# Altium footprint library Pcb_Lib.PcbLib: 27 footprints (part 1 of 2)
Each footprint in its own frame and in the unit in brackets; x right, y up, seen from the top. Pads: shape width x height; smd on the part's side, far side on the other; paste and mask are expansions set on the pad; w line width, h text height; cw(c..) or ccw(c..) is an arc to the next point about the centre after c.
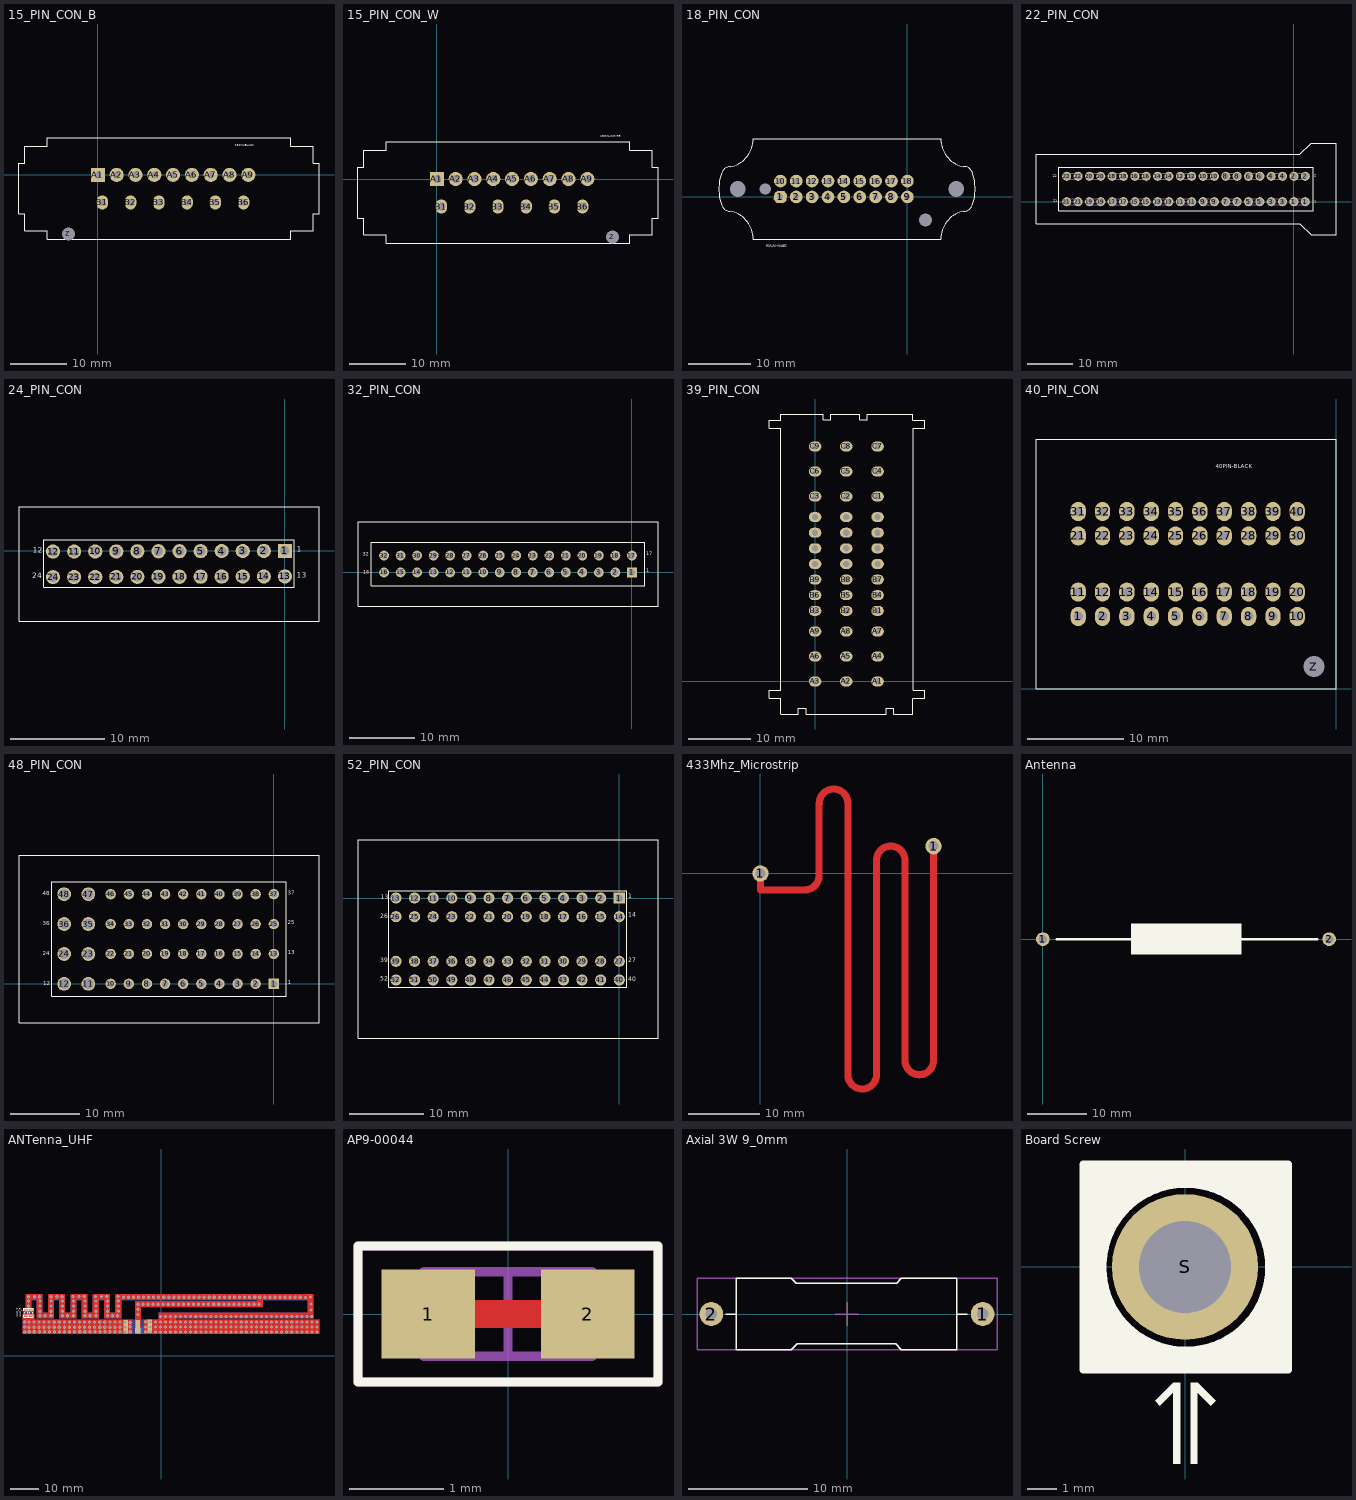
[diagram p0: the footprints below, top view; thin cyan lines are the x and y axes]

## 15_PIN_CON_B [mm] "BALCK"
height 1.2
pads (16):
  rect 2.5x2.5 hole 1.2: A1(0,0)
  round 2.5 hole 1.2: A2(3.33,0) A3(6.66,0) A4(9.99,0) A5(13.32,0) A6(16.65,0) A7(19.98,0) A8(23.31,0) A9(26.64,0)
  oval 2.032x2.5 hole 1.2: B1(0.8,-4.875) B2(5.8,-4.875) B3(10.8,-4.875) B4(15.8,-4.875) B5(20.8,-4.875) B6(25.8,-4.875)
  round 1.5 hole 2.3: Z(-5.193,-10.44)
Top Overlay:
  lines w0.1: -13.95,-6.912 -12.95,-6.912 -12.95,-9.912 -8.95,-9.912 -8.95,-11.412 34.15,-11.412 34.15,-9.912 38.15,-9.912 38.15,-6.912 39.15,-6.912 39.15,2.088 38.15,2.088 38.15,5.088 34.15,5.088 34.15,6.588 -8.95,6.588 -8.95,5.088 -12.95,5.088 -12.95,2.088 -13.95,2.088 -13.95,-6.912
  text "15PIN-BLACK" at 24.248,4.86 h0.7
3D body "bcm.002.stp": height 25.85, standoff -4, extent -13.534,-11.557 38.862,6.503

## 15_PIN_CON_W [mm] "WHITE"
height 1.2
pads (16):
  rect 2.5x2.5 hole 1.4: A1(0.025,0.051)
  round 2.5 hole 1.4: A2(3.355,0.051) A3(6.685,0.051) A4(10.015,0.051) A5(13.345,0.051) A6(16.675,0.051) A7(20.005,0.051) A8(23.335,0.051) A9(26.665,0.051)
  oval 2.032x2.5 hole 1.4: B1(0.825,-4.824) B2(5.825,-4.824) B3(10.825,-4.824) B4(15.825,-4.824) B5(20.825,-4.824) B6(25.825,-4.824)
  round 1.5 hole 2.3: Z(31.108,-10.238)
Top Overlay:
  lines w0.1: -13.925,-6.861 -12.925,-6.861 -12.925,-9.861 -8.925,-9.861 -8.925,-11.361 34.175,-11.361 34.175,-9.861 38.175,-9.861 38.175,-6.861 39.175,-6.861 39.175,2.139 38.175,2.139 38.175,5.139 34.175,5.139 34.175,6.639 -8.925,6.639 -8.925,5.139 -12.925,5.139 -12.925,2.139 -13.925,2.139 -13.925,-6.861
  text "15PIN-WHITE" at 28.956,7.239 h0.7
3D body "bcm.001.stp": height 25.85, standoff -5.48, extent -12.467,-11.423 39.929,6.68

## 18_PIN_CON [mil] "WHITE"
pads (22):
  oct 80x80 hole 35.43 rot 174: 1(-800,0)
  round 80 hole 35.43: 2(-700,0) 3(-600,0) 4(-500,0) 5(-400,0) 6(-300,0) 7(-200,0) 8(-100,0) 9(0,0) 10(-800,100) 11(-700,100) 12(-600,100) 13(-500,100) 14(-400,100) 15(-300,100) 16(-200,100) 17(-100,100) 18(0,100)
  round 90.55 hole 98.43: ""(-1069.29,50) ""(308.66,50)
  round 59.06 hole 70.87: ""(-894.49,50)
  round 59.06 hole 82.68: ""(115,-145)
Top Overlay:
  lines w3.94: -1117.69,-90.65 cw(c-1115,-31.65) -1170.24,-52.54 cw(c-872.44,50) -1170.24,152.54 cw(c-1115,131.65) -1117.27,190.66 ; -1117.27,-90.49 cw(c-1148.03,-264.96) -970.87,-264.96 210.24,-264.96 cw(c387.4,-264.96) 356.64,-90.49 ; -1117.27,190.49 ccw(c-1148.03,364.96) -970.87,364.96 210.24,364.96 ccw(c387.4,364.96) 356.64,190.49 ; 356.27,-90.72 ccw(c354.36,-31.69) 409.61,-52.54 ccw(c111.81,50) 409.61,152.54 ; 356.66,191.18 cw(c354.95,132.15) 410.28,152.79
  text "18PIN-White" at -755.77,-293.82 h27.56
3D body "bcm.004.stp": height 826.77, standoff -400.79, extent -1212.1,-274.92 400.1,355

## 22_PIN_CON [mm]
pads (44):
  round 2 hole 1.4: 1(0,0) 1(2.5,0) 2(0,5.6) 2(2.5,5.6) 3(-5,0) 3(-2.5,0) 4(-5,5.6) 4(-2.5,5.6) 5(-10,0) 5(-7.5,0) 6(-10,5.6) 6(-7.5,5.6) 7(-15,0) 7(-12.5,0) 8(-15,5.6) 8(-12.5,5.6) 9(-20,0) 9(-17.5,0) 10(-20,5.6) 10(-17.5,5.6) 11(-25,0) 11(-22.5,0) 12(-25,5.6) 12(-22.5,5.6) 13(-30,0) 13(-27.5,0) 14(-30,5.6) 14(-27.5,5.6) 15(-35,0) 15(-32.5,0) 16(-35,5.6) 16(-32.5,5.6) 17(-40,0) 17(-37.5,0) 18(-40,5.6) 18(-37.5,5.6) 19(-45,0) 19(-42.5,0) 20(-45,5.6) 20(-42.5,5.6) 21(-50,0) 21(-47.5,0) 22(-50,5.6) 22(-47.5,5.6)
Top Overlay:
  lines w0.1: -56.75,-4.85 1.3,-4.85 3.75,-7.3 9.25,-7.3 9.25,12.9 3.75,12.9 1.3,10.45 -56.75,10.45 -56.75,-4.85 ; -51.75,-2 -51.75,7.6 4.25,7.6 4.25,-2 -51.75,-2
  text "21" at -52.984,-0.3 h1
  text "22" at -53.101,5.2 h1
  text "2" at 4.499,5.3 h1
  text "1" at 4.5,-0.45 h1
Mechanical 1:
  lines w0.013: -50,-0.65 cw(c-50,0) -50,0.65 -47.5,0.65 cw(c-47.5,0) -47.5,-0.65 -50,-0.65 ; -50,4.95 cw(c-50,5.6) -50,6.25 -47.5,6.25 cw(c-47.5,5.6) -47.5,4.95 -50,4.95 ; -45,-0.65 cw(c-45,0) -45,0.65 -42.5,0.65 cw(c-42.5,0) -42.5,-0.65 -45,-0.65 ; -45,4.95 cw(c-45,5.6) -45,6.25 -42.5,6.25 cw(c-42.5,5.6) -42.5,4.95 -45,4.95 ; -40,-0.65 cw(c-40,0) -40,0.65 -37.5,0.65 cw(c-37.5,0) -37.5,-0.65 -40,-0.65 ; -40,4.95 cw(c-40,5.6) -40,6.25 -37.5,6.25 cw(c-37.5,5.6) -37.5,4.95 -40,4.95 ; -35,-0.65 cw(c-35,0) -35,0.65 -32.5,0.65 cw(c-32.5,0) -32.5,-0.65 -35,-0.65 ; -35,4.95 cw(c-35,5.6) -35,6.25 -32.5,6.25 cw(c-32.5,5.6) -32.5,4.95 -35,4.95 ; -30,-0.65 cw(c-30,0) -30,0.65 -27.5,0.65 cw(c-27.5,0) -27.5,-0.65 -30,-0.65 ; -30,4.95 cw(c-30,5.6) -30,6.25 -27.5,6.25 cw(c-27.5,5.6) -27.5,4.95 -30,4.95 ; -25,-0.65 cw(c-25,0) -25,0.65 -22.5,0.65 cw(c-22.5,0) -22.5,-0.65 -25,-0.65 ; -25,4.95 cw(c-25,5.6) -25,6.25 -22.5,6.25 cw(c-22.5,5.6) -22.5,4.95 -25,4.95 ; -20,-0.65 cw(c-20,0) -20,0.65 -17.5,0.65 cw(c-17.5,0) -17.5,-0.65 -20,-0.65 ; -20,4.95 cw(c-20,5.6) -20,6.25 -17.5,6.25 cw(c-17.5,5.6) -17.5,4.95 -20,4.95 ; -15,-0.65 cw(c-15,0) -15,0.65 -12.5,0.65 cw(c-12.5,0) -12.5,-0.65 -15,-0.65 ; -15,4.95 cw(c-15,5.6) -15,6.25 -12.5,6.25 cw(c-12.5,5.6) -12.5,4.95 -15,4.95 ; -10,-0.65 cw(c-10,0) -10,0.65 -7.5,0.65 cw(c-7.5,0) -7.5,-0.65 -10,-0.65 ; -10,4.95 cw(c-10,5.6) -10,6.25 -7.5,6.25 cw(c-7.5,5.6) -7.5,4.95 -10,4.95 ; -5,-0.65 cw(c-5,0) -5,0.65 -2.5,0.65 cw(c-2.5,0) -2.5,-0.65 -5,-0.65 ; -5,4.95 cw(c-5,5.6) -5,6.25 -2.5,6.25 cw(c-2.5,5.6) -2.5,4.95 -5,4.95 ; 0,-0.65 cw(c0,0) 0,0.65 2.5,0.65 cw(c2.5,0) 2.5,-0.65 0,-0.65 ; 0,4.95 cw(c0,5.6) 0,6.25 2.5,6.25 cw(c2.5,5.6) 2.5,4.95 0,4.95

## 24_PIN_CON [mm]
pads (24):
  rect 1.5x1.5 hole 1: 1(0,0)
  round 1.5 hole 1: 2(-2.227,-0.007) 3(-4.455,-0.014) 4(-6.682,-0.021) 5(-8.909,-0.028) 6(-11.136,-0.035) 7(-13.364,-0.042) 8(-15.591,-0.049) 9(-17.818,-0.056) 10(-20.046,-0.063) 11(-22.273,-0.07) 12(-24.5,-0.077) 13(0,-2.7) 14(-2.227,-2.707) 15(-4.455,-2.714) 16(-6.682,-2.721) 17(-8.909,-2.728) 18(-11.136,-2.735) 19(-13.364,-2.742) 20(-15.591,-2.749) 21(-17.818,-2.756) 22(-20.046,-2.763) 23(-22.273,-2.77) 24(-24.5,-2.777)
Top Overlay:
  lines w0.1: -28.1,-7.438 -28.1,4.662 3.6,4.662 3.6,-7.438 -28.1,-7.438 ; -25.5,-3.85 -25.5,1.15 1,1.15 1,-3.85 -25.5,-3.85
  text "1" at 1.25,-0.3 h1
  text "13" at 1.25,-3.039 h1
  text "12" at -26.625,-0.4 h1
  text "24" at -26.701,-3.1 h1
Mechanical 1:
  circle w0.013: c-24.5,-2.777 r0.5
  circle w0.013: c-24.5,-0.077 r0.5
  circle w0.013: c-22.273,-2.77 r0.5
  circle w0.013: c-22.273,-0.07 r0.5
  circle w0.013: c-20.046,-2.763 r0.5
  circle w0.013: c-20.046,-0.063 r0.5
  circle w0.013: c-17.818,-2.756 r0.5
  circle w0.013: c-17.818,-0.056 r0.5
  circle w0.013: c-15.591,-2.749 r0.5
  circle w0.013: c-15.591,-0.049 r0.5
  circle w0.013: c-13.364,-2.742 r0.5
  circle w0.013: c-13.364,-0.042 r0.5
  circle w0.013: c-11.136,-2.735 r0.5
  circle w0.013: c-11.136,-0.035 r0.5
  circle w0.013: c-8.909,-2.728 r0.5
  circle w0.013: c-8.909,-0.028 r0.5
  circle w0.013: c-6.682,-2.721 r0.5
  circle w0.013: c-6.682,-0.021 r0.5
  circle w0.013: c-4.455,-2.714 r0.5
  circle w0.013: c-4.455,-0.014 r0.5
  circle w0.013: c-2.227,-2.707 r0.5
  circle w0.013: c-2.227,-0.007 r0.5
  circle w0.013: c0,-2.7 r0.5
  circle w0.013: c0,0 r0.5

## 32_PIN_CON [mm]
pads (32):
  rect 1.5x1.5 hole 1: 1(0,0)
  round 1.5 hole 1: 2(-2.533,0) 3(-5.067,0) 4(-7.6,0) 5(-10.133,0) 6(-12.666,0) 7(-15.2,0) 8(-17.733,0) 9(-20.266,0) 10(-22.8,0) 11(-25.333,0) 12(-27.866,0) 13(-30.4,0) 14(-32.933,0) 15(-35.466,0) 16(-37.999,0) 17(0,2.6) 18(-2.533,2.6) 19(-5.067,2.6) 20(-7.6,2.6) 21(-10.133,2.6) 22(-12.666,2.6) 23(-15.2,2.6) 24(-17.733,2.6) 25(-20.266,2.6) 26(-22.8,2.6) 27(-25.333,2.6) 28(-27.866,2.6) 29(-30.4,2.6) 30(-32.933,2.6) 31(-35.466,2.6) 32(-37.999,2.6)
Top Overlay:
  lines w0.1: -42,-5.2 -42,7.8 4,7.8 4,-5.2 -42,-5.2 ; -40,-2 2,-2 2,4.6 -40,4.6 -40,-2
  text "17" at 2.2,2.4 h1
  text "1" at 2.2,-0.2 h1
  text "32" at -41.25,2.311 h1
  text "16" at -41.197,-0.389 h1
Mechanical 1:
  circle w0.013: c0,2.6 r0.5
  circle w0.013: c0,0 r0.5
  circle w0.013: c-2.533,2.6 r0.5
  circle w0.013: c-2.533,0 r0.5
  circle w0.013: c-5.067,2.6 r0.5
  circle w0.013: c-5.067,0 r0.5
  circle w0.013: c-7.6,2.6 r0.5
  circle w0.013: c-7.6,0 r0.5
  circle w0.013: c-10.133,2.6 r0.5
  circle w0.013: c-10.133,0 r0.5
  circle w0.013: c-12.666,2.6 r0.5
  circle w0.013: c-12.666,0 r0.5
  circle w0.013: c-15.2,2.6 r0.5
  circle w0.013: c-15.2,0 r0.5
  circle w0.013: c-17.733,2.6 r0.5
  circle w0.013: c-17.733,0 r0.5
  circle w0.013: c-20.266,2.6 r0.5
  circle w0.013: c-20.266,0 r0.5
  circle w0.013: c-22.8,2.6 r0.5
  circle w0.013: c-22.8,0 r0.5
  circle w0.013: c-25.333,2.6 r0.5
  circle w0.013: c-25.333,0 r0.5
  circle w0.013: c-27.866,2.6 r0.5
  circle w0.013: c-27.866,0 r0.5
  circle w0.013: c-30.4,2.6 r0.5
  circle w0.013: c-30.4,0 r0.5
  circle w0.013: c-32.933,2.6 r0.5
  circle w0.013: c-32.933,0 r0.5
  circle w0.013: c-35.466,2.6 r0.5
  circle w0.013: c-35.466,0 r0.5
  circle w0.013: c-37.999,2.6 r0.5
  circle w0.013: c-37.999,0 r0.5

## 39_PIN_CON [mm]
pads (39):
  oval 2x1.6 hole 1: A1(10,0) A2(5,0) A3(0,0) A4(10,4) A5(5,4) A6(0,4) A7(10,8) A8(5,8) A9(0,8) B1(10,11.3) B2(5,11.3) B3(0,11.3) B4(10,13.8) B5(5,13.8) B6(0,13.8) B7(10,16.3) B8(5,16.3) B9(0,16.3) B10(10,18.8) B11(5,18.8) B12(0,18.8) B13(10,21.3) B14(5,21.3) B15(0,21.3) B16(10,23.8) B17(5,23.8) B18(0,23.8) B19(10,26.3) B20(5,26.3) B21(0,26.3) C1(10,29.6) C2(5,29.6) C3(0,29.6) C4(10,33.6) C5(5,33.6) C6(0,33.6) C7(10,37.6) C8(5,37.6) C9(0,37.6)
Top Overlay:
  lines w0.2: -5.461,-5.201 -5.461,-2.667 -7.366,-2.667 -7.366,-1.397 -5.461,-1.397 -5.461,40.513 -7.366,40.513 -7.366,41.783 -5.461,41.783 -5.461,42.793 1.328,42.793 ; -5.455,-5.207 -2.667,-5.207 -2.667,-4.318 -1.397,-4.318 -1.397,-5.207 11.43,-5.207 11.43,-4.318 12.573,-4.318 12.573,-5.207 15.621,-5.207 15.621,-2.73 15.684,-2.667 17.59,-2.667 17.59,-1.397 15.684,-1.397 15.684,40.45 15.748,40.513 17.526,40.513 17.526,41.783 15.621,41.783 15.621,42.793 8.324,42.793 ; 1.333,42.799 1.333,41.91 2.476,41.91 2.476,42.799 7.175,42.799 7.175,41.91 8.319,41.91 8.319,42.799
Bottom Overlay:
  text "B1" at 12.319,10.922 h1
  text "C9" at -1.397,37.222 h1
  text "B21" at -1.524,26.035 h1
  text "C1" at 12.446,29.221 h1
  text "A3" at 0.381,-1.894 h1
  text "A1" at 10.795,-1.905 h1
  text "A2" at 5.588,-1.905 h1
  text "A9" at -1.397,7.758 h1

## 40_PIN_CON [mm]
height 1.2
pads (41):
  oval 1.6x2 hole 1: 1(-26.9,7.53) 2(-24.36,7.53) 3(-21.82,7.53) 4(-19.28,7.53) 5(-16.74,7.53) 6(-14.2,7.53) 7(-11.66,7.53) 8(-9.12,7.53) 9(-6.58,7.53) 10(-4.04,7.53) 11(-26.9,10.07) 12(-24.36,10.07) 13(-21.82,10.07) 14(-19.28,10.07) 15(-16.74,10.07) 16(-14.2,10.07) 17(-11.66,10.07) 18(-9.12,10.07) 19(-6.58,10.07) 20(-4.04,10.07) 21(-26.9,15.93) 22(-24.36,15.93) 23(-21.82,15.93) 24(-19.28,15.93) 25(-16.74,15.93) 26(-14.2,15.93) 27(-11.66,15.93) 28(-9.12,15.93) 29(-6.58,15.93) 30(-4.04,15.93) 31(-26.9,18.47) 32(-24.36,18.47) 33(-21.82,18.47) 34(-19.28,18.47) 35(-16.74,18.47) 36(-14.2,18.47) 37(-11.66,18.47) 38(-9.12,18.47) 39(-6.58,18.47) 40(-4.04,18.47)
  round 1.5 hole 2.2: Z(-2.3,2.3)
Top Overlay:
  lines w0.1: -31.3,0 0,0 0,26 -31.3,26 -31.3,0
  text "40PIN-BLACK" at -12.564,22.843 h0.7
3D body "bcm.003.stp": height 25, standoff -3.5, extent -32.026,0.364 0.174,26.314

## 48_PIN_CON [mm]
pads (48):
  rect 1.5x1.5 hole 1: 1(0,0)
  round 1.5 hole 1: 2(-2.628,0) 3(-5.255,0) 4(-7.883,0) 5(-10.511,0) 6(-13.139,0) 7(-15.767,0) 8(-18.394,0) 9(-21.022,0) 10(-23.65,0) 13(0,4.333) 14(-2.628,4.333) 15(-5.255,4.333) 16(-7.883,4.333) 17(-10.511,4.333) 18(-13.139,4.333) 19(-15.767,4.333) 20(-18.394,4.333) 21(-21.022,4.333) 22(-23.65,4.333) 25(0,8.667) 26(-2.628,8.667) 27(-5.255,8.667) 28(-7.883,8.667) 29(-10.511,8.667) 30(-13.139,8.667) 31(-15.767,8.667) 32(-18.394,8.667) 33(-21.022,8.667) 34(-23.65,8.667) 37(0,13) 38(-2.628,13) 39(-5.255,13) 40(-7.883,13) 41(-10.511,13) 42(-13.139,13) 43(-15.767,13) 44(-18.394,13) 45(-21.022,13) 46(-23.65,13)
  round 2 hole 1.5: 11(-26.9,0) 12(-30.4,0) 23(-26.9,4.333) 24(-30.4,4.333) 35(-26.9,8.667) 36(-30.4,8.667) 47(-26.9,13) 48(-30.4,13)
Top Overlay:
  lines w0.1: -36.95,-5.65 6.55,-5.65 6.55,18.65 -36.95,18.65 -36.95,-5.65 ; -32.2,-1.8 1.8,-1.8 1.8,14.8 -32.2,14.8 -32.2,-1.8
  text "37" at 2,12.711 h1
  text "25" at 1.999,8.411 h1
  text "13" at 2,4.061 h1
  text "1" at 2,-0.3 h1
  text "12" at -33.425,-0.4 h1
  text "24" at -33.501,3.95 h1
  text "36" at -33.491,8.311 h1
  text "48" at -33.519,12.611 h1
Mechanical 1:
  circle w0.013: c-2.628,13 r0.5
  circle w0.013: c-5.255,13 r0.5
  circle w0.013: c-7.883,13 r0.5
  circle w0.013: c-10.511,13 r0.5
  circle w0.013: c-13.139,13 r0.5
  circle w0.013: c-15.767,13 r0.5
  circle w0.013: c-18.394,13 r0.5
  circle w0.013: c-21.022,13 r0.5
  circle w0.013: c-23.65,13 r0.5
  circle w0.013: c0,13 r0.5
  circle w0.013: c-2.628,8.667 r0.5
  circle w0.013: c-5.255,8.667 r0.5
  circle w0.013: c-7.883,8.667 r0.5
  circle w0.013: c-10.511,8.667 r0.5
  circle w0.013: c-13.139,8.667 r0.5
  circle w0.013: c-15.767,8.667 r0.5
  circle w0.013: c-18.394,8.667 r0.5
  circle w0.013: c-21.022,8.667 r0.5
  circle w0.013: c-23.65,8.667 r0.5
  circle w0.013: c0,8.667 r0.5
  circle w0.013: c-2.628,4.333 r0.5
  circle w0.013: c-5.255,4.333 r0.5
  circle w0.013: c-7.883,4.333 r0.5
  circle w0.013: c-10.511,4.333 r0.5
  circle w0.013: c-13.139,4.333 r0.5
  circle w0.013: c-15.767,4.333 r0.5
  circle w0.013: c-18.394,4.333 r0.5
  circle w0.013: c-21.022,4.333 r0.5
  circle w0.013: c-23.65,4.333 r0.5
  circle w0.013: c0,4.333 r0.5
  circle w0.013: c-2.628,0 r0.5
  circle w0.013: c-5.255,0 r0.5
  circle w0.013: c-7.883,0 r0.5
  circle w0.013: c-10.511,0 r0.5
  circle w0.013: c-13.139,0 r0.5
  circle w0.013: c-15.767,0 r0.5
  circle w0.013: c-18.394,0 r0.5
  circle w0.013: c-21.022,0 r0.5
  circle w0.013: c-23.65,0 r0.5
  circle w0.013: c-26.9,13 r0.675
  circle w0.013: c-30.4,13 r0.675
  circle w0.013: c-26.9,8.667 r0.675
  circle w0.013: c-30.4,8.667 r0.675
  circle w0.013: c-26.9,4.333 r0.675
  circle w0.013: c-30.4,4.333 r0.675
  circle w0.013: c-26.9,0 r0.675
  circle w0.013: c0,0 r0.5
  circle w0.013: c-30.4,0 r0.675

## 52_PIN_CON [mm]
pads (52):
  rect 1.5x1.5 hole 1: 1(0,0)
  round 1.5 hole 1: 2(-2.5,0) 3(-5,0) 4(-7.5,0) 5(-10,0) 6(-12.5,0) 7(-15,0) 8(-17.5,0) 9(-20,0) 10(-22.5,0) 11(-25,0) 12(-27.5,0) 13(-30,0) 14(0,-2.5) 15(-2.5,-2.5) 16(-5,-2.5) 17(-7.5,-2.5) 18(-10,-2.5) 19(-12.5,-2.5) 20(-15,-2.5) 21(-17.5,-2.5) 22(-20,-2.5) 23(-22.5,-2.5) 24(-25,-2.5) 25(-27.5,-2.5) 26(-30,-2.5) 27(0,-8.5) 28(-2.5,-8.5) 29(-5,-8.5) 30(-7.5,-8.5) 31(-10,-8.5) 32(-12.5,-8.5) 33(-15,-8.5) 34(-17.5,-8.5) 35(-20,-8.5) 36(-22.5,-8.5) 37(-25,-8.5) 38(-27.5,-8.5) 39(-30,-8.5) 40(0,-11) 41(-2.5,-11) 42(-5,-11) 43(-7.5,-11) 44(-10,-11) 45(-12.5,-11) 46(-15,-11) 47(-17.5,-11) 48(-20,-11) 49(-22.5,-11) 50(-25,-11) 51(-27.5,-11) 52(-30,-11)
Top Overlay:
  lines w0.1: -35.1,-18.8 -35.1,7.8 5.2,7.8 5.2,-18.8 -35.1,-18.8 ; -31,-12 -31,1 1,1 1,-12 -31,-12
  text "1" at 1.213,-0.245 h1
  text "14" at 1.213,-2.745 h1
  text "27" at 1.212,-8.845 h1
  text "40" at 1.213,-11.384 h1
  text "52" at -32.087,-11.334 h1
  text "39" at -32.093,-8.834 h1
  text "26" at -32.105,-2.934 h1
  text "13" at -32.033,-0.334 h1
Mechanical 1:
  circle w0.013: c-30,0 r0.5
  circle w0.013: c-30,-2.5 r0.5
  circle w0.013: c-30,-11 r0.5
  circle w0.013: c-30,-8.5 r0.5
  circle w0.013: c-27.5,0 r0.5
  circle w0.013: c-27.5,-2.5 r0.5
  circle w0.013: c-27.5,-11 r0.5
  circle w0.013: c-27.5,-8.5 r0.5
  circle w0.013: c-25,0 r0.5
  circle w0.013: c-25,-2.5 r0.5
  circle w0.013: c-25,-11 r0.5
  circle w0.013: c-25,-8.5 r0.5
  circle w0.013: c-22.5,0 r0.5
  circle w0.013: c-22.5,-2.5 r0.5
  circle w0.013: c-22.5,-11 r0.5
  circle w0.013: c-22.5,-8.5 r0.5
  circle w0.013: c-20,0 r0.5
  circle w0.013: c-20,-2.5 r0.5
  circle w0.013: c-20,-11 r0.5
  circle w0.013: c-20,-8.5 r0.5
  circle w0.013: c-17.5,0 r0.5
  circle w0.013: c-17.5,-2.5 r0.5
  circle w0.013: c-17.5,-11 r0.5
  circle w0.013: c-17.5,-8.5 r0.5
  circle w0.013: c-15,0 r0.5
  circle w0.013: c-15,-2.5 r0.5
  circle w0.013: c-15,-11 r0.5
  circle w0.013: c-15,-8.5 r0.5
  circle w0.013: c-12.5,0 r0.5
  circle w0.013: c-12.5,-2.5 r0.5
  circle w0.013: c-12.5,-11 r0.5
  circle w0.013: c-12.5,-8.5 r0.5
  circle w0.013: c-10,0 r0.5
  circle w0.013: c-10,-2.5 r0.5
  circle w0.013: c-10,-11 r0.5
  circle w0.013: c-10,-8.5 r0.5
  circle w0.013: c-7.5,0 r0.5
  circle w0.013: c-7.5,-2.5 r0.5
  circle w0.013: c-7.5,-11 r0.5
  circle w0.013: c-7.5,-8.5 r0.5
  circle w0.013: c-5,0 r0.5
  circle w0.013: c-5,-2.5 r0.5
  circle w0.013: c-5,-11 r0.5
  circle w0.013: c-5,-8.5 r0.5
  circle w0.013: c-2.5,0 r0.5
  circle w0.013: c-2.5,-2.5 r0.5
  circle w0.013: c-2.5,-11 r0.5
  circle w0.013: c-2.5,-8.5 r0.5
  circle w0.013: c0,0 r0.5
  circle w0.013: c0,-2.5 r0.5
  circle w0.013: c0,-11 r0.5
  circle w0.013: c0,-8.5 r0.5

## 433Mhz_Microstrip [mm]
pads (2):
  round 2.3 hole 1.4: 1(0,0) 1(24.246,3.818)
Top Layer:
  lines w1: 0,0 0,-2.3 6.218,-2.3 ccw(c6.218,-0.3) 8.218,-0.3 ; 8.224,-0.181 8.224,9.819 ; 8.246,9.818 cw(c10.246,9.818) 12.246,9.818 12.246,-28.182 ccw(c14.246,-28.182) 16.246,-28.182 16.246,1.818 cw(c18.246,1.818) 20.246,1.818 20.246,-26.182 ccw(c22.246,-26.182) 24.246,-26.182 24.246,3.818

## Antenna [mm] "433MHz_TPMS"
pads (2):
  round 2.3 hole 1.4: 1(0,0) 2(48,0)
Top Overlay:
  rectangle: 14.76,-2.581 33.276,2.634
  lines w0.4: 2.286,0 45.974,0
3D body "Helical Wire Antenna R2.stp": height 8.45, standoff -2.8, extent -1.398,-3.25 49.4,2.249

## ANTenna_UHF [mm]
pads (13):
  rect 1.3x0.85 smd: 1(-48.125,14.425) 1(-46.375,14.425) 2(-48.125,16.325) 2(-46.375,16.325)
  rect 1.5x4.8 smd mask+0.102: 1(-8.36,10.42) 2(-12.64,10.42) 2(-4.12,10.5)
  rect 1.98x2 smd far side: 1(-7.652,9.156)
  rect 1.98x2 smd: 2(-8.33,9.03)
  rect 1x0.5 smd mask+0.102: 3(-48.387,16.383) 3(-46.736,16.383) 4(-48.387,14.478) 4(-46.736,14.478)
via -12.82,10.24 diameter 1.1 hole 0.8
via -11.1,10.4 diameter 1.1 hole 0.8
via -11.049,11.938 diameter 1.1 hole 0.8
via 53.213,20.955 diameter 1.1 hole 0.8
via 51.308,20.828 diameter 1.1 hole 0.8
via -5.588,8.636 diameter 1.1 hole 0.8
via -0.254,14.097 diameter 1.1 hole 0.8
via 53.594,14.097 diameter 1.1 hole 0.8
via -15.367,21.209 diameter 1.1 hole 0.8
via -39.229,19.524 diameter 1.1 hole 0.8
via -39.229,17.724 diameter 1.1 hole 0.8
via -39.229,15.924 diameter 1.1 hole 0.8
via -39.229,14.324 diameter 1.1 hole 0.8
via -41.429,14.324 diameter 1.1 hole 0.8
via -43.229,14.324 diameter 1.1 hole 0.8
via -43.229,15.924 diameter 1.1 hole 0.8
via -43.229,17.724 diameter 1.1 hole 0.8
via -43.229,19.524 diameter 1.1 hole 0.8
via -43.306,21.082 diameter 1.1 hole 0.8
via -45.199,21.082 diameter 1.1 hole 0.8
via -47.229,17.724 diameter 1.1 hole 0.8
via -47.229,19.524 diameter 1.1 hole 0.8
via -39.306,21.082 diameter 1.1 hole 0.8
via -37.199,21.082 diameter 1.1 hole 0.8
via -35.229,14.324 diameter 1.1 hole 0.8
via -33.429,14.324 diameter 1.1 hole 0.8
via -31.229,14.324 diameter 1.1 hole 0.8
via -31.229,15.924 diameter 1.1 hole 0.8
via -35.229,15.924 diameter 1.1 hole 0.8
via -23.229,15.924 diameter 1.1 hole 0.8
via -23.229,14.324 diameter 1.1 hole 0.8
via -25.429,14.324 diameter 1.1 hole 0.8
via -27.229,14.324 diameter 1.1 hole 0.8
via -27.229,15.924 diameter 1.1 hole 0.8
via -15.629,14.324 diameter 1.1 hole 0.8
via -17.429,14.324 diameter 1.1 hole 0.8
via -19.229,14.324 diameter 1.1 hole 0.8
via 50.071,8.524 diameter 1.1 hole 0.8
via 50.071,10.324 diameter 1.1 hole 0.8
via 50.071,12.124 diameter 1.1 hole 0.8
via 50.071,14.124 diameter 1.1 hole 0.8
via 51.871,14.124 diameter 1.1 hole 0.8
via 51.871,12.124 diameter 1.1 hole 0.8
via 51.871,10.324 diameter 1.1 hole 0.8
via 51.871,8.524 diameter 1.1 hole 0.8
via 53.671,12.124 diameter 1.1 hole 0.8
via 53.671,10.324 diameter 1.1 hole 0.8
via 53.671,8.524 diameter 1.1 hole 0.8
via 55.471,12.124 diameter 1.1 hole 0.8
via 55.471,10.324 diameter 1.1 hole 0.8
via 55.471,8.524 diameter 1.1 hole 0.8
via 42.871,8.524 diameter 1.1 hole 0.8
via 42.871,10.324 diameter 1.1 hole 0.8
via 42.871,12.124 diameter 1.1 hole 0.8
via 42.871,14.124 diameter 1.1 hole 0.8
via 44.671,14.124 diameter 1.1 hole 0.8
via 44.671,12.124 diameter 1.1 hole 0.8
via 44.671,10.324 diameter 1.1 hole 0.8
via 44.671,8.524 diameter 1.1 hole 0.8
via 46.471,14.124 diameter 1.1 hole 0.8
via 46.471,12.124 diameter 1.1 hole 0.8
via 46.471,10.324 diameter 1.1 hole 0.8
via 46.471,8.524 diameter 1.1 hole 0.8
via 48.271,14.124 diameter 1.1 hole 0.8
via 48.271,12.124 diameter 1.1 hole 0.8
via 48.271,10.324 diameter 1.1 hole 0.8
via 48.271,8.524 diameter 1.1 hole 0.8
via 35.671,8.524 diameter 1.1 hole 0.8
via 35.671,10.324 diameter 1.1 hole 0.8
via 35.671,12.124 diameter 1.1 hole 0.8
via 35.671,14.124 diameter 1.1 hole 0.8
via 37.471,14.124 diameter 1.1 hole 0.8
via 37.471,12.124 diameter 1.1 hole 0.8
via 37.471,10.324 diameter 1.1 hole 0.8
via 37.471,8.524 diameter 1.1 hole 0.8
via 39.271,14.124 diameter 1.1 hole 0.8
via 39.271,12.124 diameter 1.1 hole 0.8
via 39.271,10.324 diameter 1.1 hole 0.8
via 39.271,8.524 diameter 1.1 hole 0.8
via 41.071,14.124 diameter 1.1 hole 0.8
via 41.071,12.124 diameter 1.1 hole 0.8
via 41.071,10.324 diameter 1.1 hole 0.8
via 41.071,8.524 diameter 1.1 hole 0.8
via 28.471,8.524 diameter 1.1 hole 0.8
via 28.471,10.324 diameter 1.1 hole 0.8
via 28.471,12.124 diameter 1.1 hole 0.8
via 28.471,14.124 diameter 1.1 hole 0.8
via 30.271,14.124 diameter 1.1 hole 0.8
via 30.271,12.124 diameter 1.1 hole 0.8
via 30.271,10.324 diameter 1.1 hole 0.8
via 30.271,8.524 diameter 1.1 hole 0.8
via 32.071,14.124 diameter 1.1 hole 0.8
via 32.071,12.124 diameter 1.1 hole 0.8
via 32.071,10.324 diameter 1.1 hole 0.8
via 32.071,8.524 diameter 1.1 hole 0.8
via 33.871,14.124 diameter 1.1 hole 0.8
via 33.871,12.124 diameter 1.1 hole 0.8
via 33.871,10.324 diameter 1.1 hole 0.8
via 33.871,8.524 diameter 1.1 hole 0.8
via 21.271,8.524 diameter 1.1 hole 0.8
via 21.271,10.324 diameter 1.1 hole 0.8
via 21.271,12.124 diameter 1.1 hole 0.8
via 21.271,14.124 diameter 1.1 hole 0.8
via 23.071,14.124 diameter 1.1 hole 0.8
via 23.071,12.124 diameter 1.1 hole 0.8
via 23.071,10.324 diameter 1.1 hole 0.8
via 23.071,8.524 diameter 1.1 hole 0.8
via 24.871,14.124 diameter 1.1 hole 0.8
via 24.871,12.124 diameter 1.1 hole 0.8
via 24.871,10.324 diameter 1.1 hole 0.8
via 24.871,8.524 diameter 1.1 hole 0.8
via 26.671,14.124 diameter 1.1 hole 0.8
via 26.671,12.124 diameter 1.1 hole 0.8
via 26.671,10.324 diameter 1.1 hole 0.8
via 26.671,8.524 diameter 1.1 hole 0.8
via 14.071,8.524 diameter 1.1 hole 0.8
via 14.071,10.324 diameter 1.1 hole 0.8
via 14.071,12.124 diameter 1.1 hole 0.8
via 14.071,14.124 diameter 1.1 hole 0.8
via 15.871,14.124 diameter 1.1 hole 0.8
via 15.871,12.124 diameter 1.1 hole 0.8
via 15.871,10.324 diameter 1.1 hole 0.8
via 15.871,8.524 diameter 1.1 hole 0.8
via 17.671,14.124 diameter 1.1 hole 0.8
via 17.671,12.124 diameter 1.1 hole 0.8
via 17.671,10.324 diameter 1.1 hole 0.8
via 17.671,8.524 diameter 1.1 hole 0.8
via 19.471,14.124 diameter 1.1 hole 0.8
via 19.471,12.124 diameter 1.1 hole 0.8
via 19.471,10.324 diameter 1.1 hole 0.8
via 19.471,8.524 diameter 1.1 hole 0.8
via 6.871,8.524 diameter 1.1 hole 0.8
via 6.871,10.324 diameter 1.1 hole 0.8
via 6.871,12.124 diameter 1.1 hole 0.8
via 6.871,14.124 diameter 1.1 hole 0.8
via 8.671,14.124 diameter 1.1 hole 0.8
via 8.671,12.124 diameter 1.1 hole 0.8
via 8.671,10.324 diameter 1.1 hole 0.8
via 8.671,8.524 diameter 1.1 hole 0.8
via 10.471,14.124 diameter 1.1 hole 0.8
via 10.471,12.124 diameter 1.1 hole 0.8
via 10.471,10.324 diameter 1.1 hole 0.8
via 10.471,8.524 diameter 1.1 hole 0.8
via 12.271,14.124 diameter 1.1 hole 0.8
via 12.271,12.124 diameter 1.1 hole 0.8
via 12.271,10.324 diameter 1.1 hole 0.8
via 12.271,8.524 diameter 1.1 hole 0.8
via 5.071,8.524 diameter 1.1 hole 0.8
via 5.071,10.324 diameter 1.1 hole 0.8
via 5.071,12.124 diameter 1.1 hole 0.8
via 5.071,14.124 diameter 1.1 hole 0.8
via 3.271,10.324 diameter 1.1 hole 0.8
via 3.271,12.124 diameter 1.1 hole 0.8
via 3.271,14.124 diameter 1.1 hole 0.8
via 1.471,8.524 diameter 1.1 hole 0.8
via 1.471,10.324 diameter 1.1 hole 0.8
via 1.471,12.124 diameter 1.1 hole 0.8
via 1.471,14.124 diameter 1.1 hole 0.8
via -0.329,12.124 diameter 1.1 hole 0.8
via -0.329,10.324 diameter 1.1 hole 0.8
via -0.329,8.524 diameter 1.1 hole 0.8
via -2.129,12.124 diameter 1.1 hole 0.8
via -2.129,10.324 diameter 1.1 hole 0.8
via -2.129,8.524 diameter 1.1 hole 0.8
via -3.929,12.124 diameter 1.1 hole 0.8
via -3.929,10.324 diameter 1.1 hole 0.8
via -5.588,12.192 diameter 1.1 hole 0.8
via -48.631,12.151 diameter 1.1 hole 0.8
via -48.631,10.351 diameter 1.1 hole 0.8
via -48.631,8.551 diameter 1.1 hole 0.8
via -47.107,12.024 diameter 1.1 hole 0.8
via -47.107,10.224 diameter 1.1 hole 0.8
via -47.027,8.636 diameter 1.1 hole 0.8
via -39.929,12.024 diameter 1.1 hole 0.8
via -39.929,10.224 diameter 1.1 hole 0.8
via -39.849,8.636 diameter 1.1 hole 0.8
via -41.649,8.636 diameter 1.1 hole 0.8
via -41.729,10.224 diameter 1.1 hole 0.8
via -41.729,12.024 diameter 1.1 hole 0.8
via -43.449,8.636 diameter 1.1 hole 0.8
via -43.529,10.224 diameter 1.1 hole 0.8
via -43.529,12.024 diameter 1.1 hole 0.8
via -45.249,8.636 diameter 1.1 hole 0.8
via -45.329,10.224 diameter 1.1 hole 0.8
via -45.329,12.024 diameter 1.1 hole 0.8
via -32.729,12.024 diameter 1.1 hole 0.8
via -32.729,10.224 diameter 1.1 hole 0.8
via -32.649,8.636 diameter 1.1 hole 0.8
via -34.449,8.636 diameter 1.1 hole 0.8
via -34.529,10.224 diameter 1.1 hole 0.8
via -34.529,12.024 diameter 1.1 hole 0.8
via -36.249,8.636 diameter 1.1 hole 0.8
via -36.329,10.224 diameter 1.1 hole 0.8
via -36.329,12.024 diameter 1.1 hole 0.8
via -38.049,8.636 diameter 1.1 hole 0.8
via -38.129,10.224 diameter 1.1 hole 0.8
via -38.129,12.024 diameter 1.1 hole 0.8
via -25.529,12.024 diameter 1.1 hole 0.8
via -25.529,10.224 diameter 1.1 hole 0.8
via -25.449,8.636 diameter 1.1 hole 0.8
via -27.249,8.636 diameter 1.1 hole 0.8
via -27.329,10.224 diameter 1.1 hole 0.8
via -27.329,12.024 diameter 1.1 hole 0.8
via -29.049,8.636 diameter 1.1 hole 0.8
via -29.129,10.224 diameter 1.1 hole 0.8
via -29.129,12.024 diameter 1.1 hole 0.8
via -30.849,8.636 diameter 1.1 hole 0.8
via -30.929,10.224 diameter 1.1 hole 0.8
via -30.929,12.024 diameter 1.1 hole 0.8
via -18.329,12.024 diameter 1.1 hole 0.8
via -18.329,10.224 diameter 1.1 hole 0.8
via -18.249,8.636 diameter 1.1 hole 0.8
via -20.049,8.636 diameter 1.1 hole 0.8
via -20.129,10.224 diameter 1.1 hole 0.8
via -20.129,12.024 diameter 1.1 hole 0.8
via -21.849,8.636 diameter 1.1 hole 0.8
via -21.929,10.224 diameter 1.1 hole 0.8
via -21.929,12.024 diameter 1.1 hole 0.8
via -23.649,8.636 diameter 1.1 hole 0.8
via -23.729,10.224 diameter 1.1 hole 0.8
via -23.729,12.024 diameter 1.1 hole 0.8
via -16.529,12.024 diameter 1.1 hole 0.8
via -16.529,10.224 diameter 1.1 hole 0.8
via -16.449,8.636 diameter 1.1 hole 0.8
via -14.729,12.024 diameter 1.1 hole 0.8
via -14.729,10.224 diameter 1.1 hole 0.8
via -14.649,8.636 diameter 1.1 hole 0.8
via -12.929,12.024 diameter 1.1 hole 0.8
via -12.849,8.636 diameter 1.1 hole 0.8
via -11.049,8.636 diameter 1.1 hole 0.8
via -47.306,21.082 diameter 1.1 hole 0.8
via 53.271,16.324 diameter 1.1 hole 0.8
via 53.271,18.524 diameter 1.1 hole 0.8
via -23.229,17.724 diameter 1.1 hole 0.8
via -27.229,17.724 diameter 1.1 hole 0.8
via -35.229,17.724 diameter 1.1 hole 0.8
via -31.229,17.724 diameter 1.1 hole 0.8
via -31.229,19.524 diameter 1.1 hole 0.8
via -35.229,19.524 diameter 1.1 hole 0.8
via -35.306,21.082 diameter 1.1 hole 0.8
via -31.431,21.209 diameter 1.1 hole 0.8
via -27.229,19.524 diameter 1.1 hole 0.8
via -23.229,19.524 diameter 1.1 hole 0.8
via -29.324,21.209 diameter 1.1 hole 0.8
via -27.431,21.209 diameter 1.1 hole 0.8
via -23.431,21.209 diameter 1.1 hole 0.8
via -21.324,21.209 diameter 1.1 hole 0.8
via -15.322,16.024 diameter 1.1 hole 0.8
via -19.229,15.924 diameter 1.1 hole 0.8
via -19.229,17.724 diameter 1.1 hole 0.8
via -15.322,17.824 diameter 1.1 hole 0.8
via -15.322,19.624 diameter 1.1 hole 0.8
via -19.229,19.524 diameter 1.1 hole 0.8
via -19.431,21.209 diameter 1.1 hole 0.8
via -8.329,14.824 diameter 1.1 hole 0.8
via -8.329,16.624 diameter 1.1 hole 0.8
via -8.329,18.424 diameter 1.1 hole 0.8
via -13.522,20.924 diameter 1.1 hole 0.8
via -11.722,20.924 diameter 1.1 hole 0.8
via -9.922,20.924 diameter 1.1 hole 0.8
via -8.122,20.924 diameter 1.1 hole 0.8
via -2.929,18.424 diameter 1.1 hole 0.8
via -4.729,18.424 diameter 1.1 hole 0.8
via -6.529,18.424 diameter 1.1 hole 0.8
via -6.322,20.924 diameter 1.1 hole 0.8
via -4.522,20.924 diameter 1.1 hole 0.8
via -2.722,20.924 diameter 1.1 hole 0.8
via -1.129,18.424 diameter 1.1 hole 0.8
via -0.922,20.924 diameter 1.1 hole 0.8
via 0.671,18.424 diameter 1.1 hole 0.8
via 0.878,20.924 diameter 1.1 hole 0.8
via 2.471,18.424 diameter 1.1 hole 0.8
via 2.678,20.924 diameter 1.1 hole 0.8
via 4.271,18.424 diameter 1.1 hole 0.8
via 4.478,20.924 diameter 1.1 hole 0.8
via 6.071,18.424 diameter 1.1 hole 0.8
via 6.278,20.924 diameter 1.1 hole 0.8
via 7.871,18.424 diameter 1.1 hole 0.8
via 8.078,20.924 diameter 1.1 hole 0.8
via 9.878,20.924 diameter 1.1 hole 0.8
via 9.671,18.424 diameter 1.1 hole 0.8
via 11.471,18.424 diameter 1.1 hole 0.8
via 11.678,20.924 diameter 1.1 hole 0.8
via 13.271,18.424 diameter 1.1 hole 0.8
via 13.478,20.924 diameter 1.1 hole 0.8
via 15.278,20.924 diameter 1.1 hole 0.8
via 15.071,18.424 diameter 1.1 hole 0.8
via 16.871,18.424 diameter 1.1 hole 0.8
via 17.078,20.924 diameter 1.1 hole 0.8
via 18.878,20.924 diameter 1.1 hole 0.8
via 18.671,18.424 diameter 1.1 hole 0.8
via 20.471,18.424 diameter 1.1 hole 0.8
via 20.678,20.924 diameter 1.1 hole 0.8
via 22.478,20.924 diameter 1.1 hole 0.8
via 22.271,18.424 diameter 1.1 hole 0.8
via 24.071,18.424 diameter 1.1 hole 0.8
via 24.278,20.924 diameter 1.1 hole 0.8
via 26.078,20.924 diameter 1.1 hole 0.8
via 25.871,18.424 diameter 1.1 hole 0.8
via 27.671,18.424 diameter 1.1 hole 0.8
via 27.878,20.924 diameter 1.1 hole 0.8
via 29.678,20.924 diameter 1.1 hole 0.8
via 34.871,18.424 diameter 1.1 hole 0.8
via 33.071,18.424 diameter 1.1 hole 0.8
via 31.271,18.424 diameter 1.1 hole 0.8
via 29.471,18.424 diameter 1.1 hole 0.8
via 31.478,20.924 diameter 1.1 hole 0.8
via 33.278,20.924 diameter 1.1 hole 0.8
via 35.078,20.924 diameter 1.1 hole 0.8
via 36.878,20.924 diameter 1.1 hole 0.8
via 38.678,20.924 diameter 1.1 hole 0.8
via 40.478,20.924 diameter 1.1 hole 0.8
via 42.278,20.924 diameter 1.1 hole 0.8
via 44.078,20.924 diameter 1.1 hole 0.8
via 45.878,20.924 diameter 1.1 hole 0.8
via 47.678,20.924 diameter 1.1 hole 0.8
via 49.478,20.924 diameter 1.1 hole 0.8
via 3.271,8.524 diameter 1.1 hole 0.8
via -5.6,10.3 diameter 1.1 hole 0.8
via -3.88,8.58 diameter 1.1 hole 0.8
Top Layer:
  rectangle: 3.171,12.811 5.171,13.63
  region: -49.329,15.962 -49.314,16.136 -49.269,16.304 -49.195,16.462 -49.095,16.605 -48.972,16.728 -48.829,16.828 -48.671,16.902 -48.503,16.947 -48.329,16.962 -48.329,21.962 -42.329,21.962 -42.329,15.462 -40.329,15.462 -40.329,21.962 -34.329,21.962 -34.329,15.462 -32.329,15.462 -32.329,21.962 -26.329,21.962 -26.329,15.462 -24.329,15.462 -24.329,21.962 -18.329,21.962 -18.329,15.462 -16.329,15.462 -16.329,21.962 54.171,21.962 54.171,13.462 1.171,13.462 1.171,12.962 56.171,12.962 56.171,7.962 -6.329,7.962 -6.329,12.962 -0.829,12.962 -0.829,15.462 52.171,15.462 52.171,19.962 36.171,19.962 36.171,17.462 -7.329,17.462 -7.329,7.962 -9.316,7.962 -9.316,19.462 34.171,19.462 34.171,19.962 -14.329,19.962 -14.329,13.462 -20.329,13.462 -20.329,19.962 -22.329,19.962 -22.329,13.462 -28.329,13.462 -28.329,19.962 -30.329,19.962 -30.329,13.462 -36.329,13.462 -36.329,19.962 -38.329,19.962 -38.329,13.462 -44.329,13.462 -44.329,19.962 -46.329,19.962 -46.329,16.962 -46.155,16.947 -45.987,16.902 -45.829,16.828 -45.686,16.728 -45.563,16.605 -45.463,16.462 -45.389,16.304 -45.344,16.136 -45.329,15.962
  pour cut-out: 0.143,8.304 2.556,8.304 2.556,9.066 0.143,9.066
  region: -49.329,7.924 -49.329,14.424 -49.321,14.511 -49.299,14.595 -49.262,14.674 -49.212,14.745 -49.15,14.807 -49.079,14.857 -49,14.894 -48.916,14.916 -48.829,14.924 -45.329,14.924 -45.329,12.924 -10.329,12.924 -10.329,7.924
  lines w0.013: 1.171,12.924 3.171,12.924 3.171,13.424 1.171,13.424 1.171,12.924
Bottom Layer:
  rectangle: 3.171,12.902 5.17,13.455
  region: -49.329,7.924 -49.329,14.424 -49.321,14.511 -49.299,14.595 -49.262,14.674 -49.212,14.745 -49.15,14.807 -49.079,14.857 -49,14.894 -48.916,14.916 -48.829,14.924 -45.329,14.924 -45.329,12.924 -0.829,12.924 -0.829,15.424 52.171,15.424 52.171,19.924 36.171,19.924 36.171,17.424 -7.329,17.424 -7.329,13.424 -9.329,13.424 -9.329,19.424 34.171,19.424 34.171,19.924 -14.329,19.924 -14.329,13.424 -20.329,13.424 -20.329,19.924 -22.329,19.924 -22.329,13.424 -28.329,13.424 -28.329,19.924 -30.329,19.924 -30.329,13.424 -36.329,13.424 -36.329,19.924 -38.329,19.924 -38.329,13.424 -44.329,13.424 -44.329,19.924 -46.329,19.924 -46.329,15.924 -48.329,15.924 -48.329,21.924 -42.329,21.924 -42.329,15.424 -40.329,15.424 -40.329,21.924 -34.329,21.924 -34.329,15.424 -32.329,15.424 -32.329,21.924 -26.329,21.924 -26.329,15.424 -24.329,15.424 -24.329,21.924 -18.329,21.924 -18.329,15.424 -16.329,15.424 -16.329,21.924 54.171,21.924 54.171,13.424 1.171,13.424 1.171,12.924 56.171,12.924 56.171,7.924
  lines w0.013: 1.171,12.924 3.171,12.924 3.171,13.424 1.171,13.424 1.171,12.924
Top Overlay:
  lines w0.1: -48.95,14.587 -48.95,13.8 -47.3,13.8 -47.3,14.587 ; -48.95,16.163 -48.95,16.95 -47.3,16.95 -47.3,16.163 ; -48.675,15.225 -48.675,15.525 ; -47.575,15.225 -47.575,15.525 ; -47.2,14.587 -47.2,13.8 -45.55,13.8 -45.55,14.587 ; -47.2,16.163 -47.2,16.95 -45.55,16.95 -45.55,16.163 ; -46.925,15.225 -46.925,15.525 ; -45.825,15.225 -45.825,15.525
  text "UHF_R" at -49.553,13.875 h1
  text "UHF_C" at -50.678,13.875 h1
Mechanical 13:
  lines w0.1: -48.775,14.35 -47.475,14.35 -47.475,16.4 -48.775,16.4 -48.775,14.35 ; -47.025,14.35 -45.725,14.35 -45.725,16.4 -47.025,16.4 -47.025,14.35
Mechanical 15:
  lines w0.05: -49.025,13.725 -47.225,13.725 -47.225,17.025 -49.025,17.025 -49.025,13.725 ; -47.275,13.725 -45.475,13.725 -45.475,17.025 -47.275,17.025 -47.275,13.725
  lines w0.1: -48.625,15.375 -47.625,15.375 ; -48.125,14.875 -48.125,15.875 ; -46.875,15.375 -45.875,15.375 ; -46.375,14.875 -46.375,15.875

## AP9-00044 [mm] "SMD0603"
pads (2):
  rect 1x0.95 smd paste-1: 1(-0.85,0) 2(0.85,0)
Top Layer:
  rectangle: -0.45,-0.15 0.45,0.15
Top Overlay:
  lines w0.1: -1.6,-0.725 1.6,-0.725 1.6,0.725 -1.6,0.725 -1.6,-0.725
Top Solder:
  rectangle: -0.45,-0.25 0.45,0.26
Mechanical 13:
  lines w0.1: -0.9,-0.45 0.9,-0.45 0.9,0.45 -0.9,0.45 -0.9,-0.45
Mechanical 15:
  lines w0.1: -0.45,0 0.45,0 ; 0,-0.45 0,0.45 ; -1.6,-0.725 1.6,-0.725 1.6,0.725 -1.6,0.725 -1.6,-0.725
3D body "0603 SMD Resistor.step": height 0.3, standoff 0, extent -0.8,-0.4 0.8,0.4

## Axial 3W 9_0mm [mm] "Designer Abbas Basereh"
height 9
pads (2):
  round 2 hole 1: 1(11.4,0) 2(-11.4,0)
Top Overlay:
  lines w0.12: -10.2,0 -9.3,0 ; 9.2,0 10.1,0 ; -9.3,-3 -9.3,3 -4.675,3 -4.275,2.6 4.175,2.6 4.575,3 9.2,3 9.2,-3 4.575,-3 4.075,-2.5 -4.175,-2.5 -4.675,-3 -9.3,-3
Mechanical 15:
  lines w0.12: -1,0 1,0 ; 0,-1 0,1 ; -12.6,-3 12.6,-3 12.6,3 -12.6,3 -12.6,-3
3D body "User Library-Res90 3W SilCoat.STEP": height 6.73, standoff -1.3, extent -11.835,-3.01 11.835,3.01

## Board Screw [mm]
pads (1):
  round 5 hole 3.15 mask+0.1: S(0,0)
Top Overlay:
  circle w0.889: c0.025,-0.012 r3.165
  region: 0.433,-3.957 0.253,-4.137 0.882,-4.765 1.062,-4.586
  rectangle: 0.179,-6.751 0.433,-3.957
  region: -1.038,-4.586 -0.859,-4.765 -0.23,-4.137 -0.41,-3.957
  region: -0.156,-3.957 -0.41,-3.957 -0.41,-6.751 -0.156,-6.751
  region: -3.492,-3.528 -3.489,-3.531 -0.749,-3.531 -0.749,-3.482 -3.492,-0.739
  region: 3.559,-3.526 3.556,-3.528 0.816,-3.528 0.816,-3.479 3.559,-0.736
  region: 3.559,3.508 3.556,3.51 0.816,3.51 0.816,3.461 3.559,0.718
  region: -3.492,3.505 -3.489,3.508 -0.749,3.508 -0.749,3.458 -3.492,0.716
  lines w0.254: -3.494,-3.511 -3.494,3.522 3.539,3.522 ; -3.492,-3.528 3.542,-3.528 3.542,3.505
Bottom Overlay:
  circle w0.889: c0.025,-0.012 r3.165
  region: -3.492,3.505 -3.489,3.508 -0.749,3.508 -0.749,3.458 -3.492,0.716
  region: 3.559,3.508 3.556,3.51 0.816,3.51 0.816,3.461 3.559,0.718
  region: 3.559,-3.526 3.556,-3.528 0.816,-3.528 0.816,-3.479 3.559,-0.736
  region: -3.492,-3.528 -3.489,-3.531 -0.749,-3.531 -0.749,-3.482 -3.492,-0.739
  lines w0.254: -3.494,-3.511 -3.494,3.522 3.539,3.522 ; -3.492,-3.528 3.542,-3.528 3.542,3.505
3D body "User Library-User Library-4-40 x _125 sems.STEP": height 2.34, standoff -3, extent -2.667,-2.642 2.692,2.718